# EAGLE library part CD4504BPWE4 (library CD4504BPWE4)
None
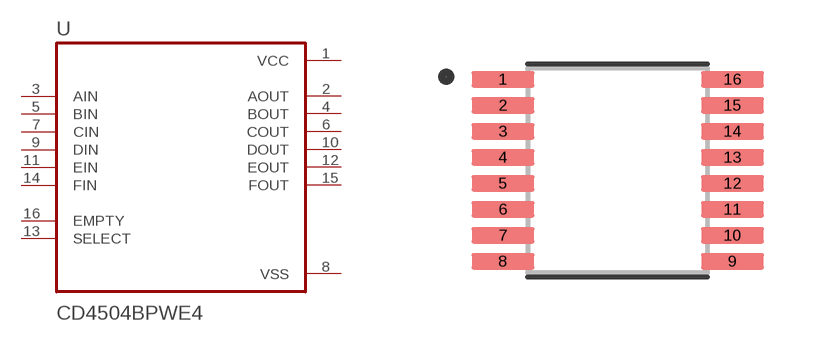
[diagram p0: symbol with the pads of SOP65P640X120-16N; footprint SOP65P640X120-16N]

Designator prefix U

## CD4504BPWE4 (Availability: Good; Description: CMOS Hex Voltage-Level Shifter for TTL-to-CMOS or CMOS-to-CMOS Operation 16-TSSOP -55 to 125; MF: Texas Instruments; MP: CD4504BPWE4; Package: TSSOP-16 Texas Instruments; Price: 0.26 USD)  [SOP65P640X120-16N]
1  VCC  pwr
2  AOUT  out
3  AIN  in
4  BOUT  out
5  BIN  in
6  COUT  out
7  CIN  in
8  VSS  pwr
9  DIN  in
10  DOUT  out
11  EIN  in
12  EOUT  out
13  SELECT
14  FIN  in
15  FOUT  out
16  EMPTY

## Footprint SOP65P640X120-16N (pad centres in mm)
smd 1.57 x 0.41: 1 -2.87,2.275; 2 -2.87,1.625; 3 -2.87,0.975; 4 -2.87,0.325; 5 -2.87,-0.325; 6 -2.87,-0.975; 7 -2.87,-1.625; 8 -2.87,-2.275; 9 2.87,-2.275; 10 2.87,-1.625; 11 2.87,-0.975; 12 2.87,-0.325; 13 2.87,0.325; 14 2.87,0.975; 15 2.87,1.625; 16 2.87,2.275